# Altium footprint library DPAK_SMD.PcbLib: 19 footprints (part 1 of 2)
Each footprint in its own frame and in the unit in brackets; x right, y up, seen from the top. Pads: shape width x height; smd on the part's side, far side on the other; paste and mask are expansions set on the pad; w line width, h text height; cw(c..) or ccw(c..) is an arc to the next point about the centre after c.
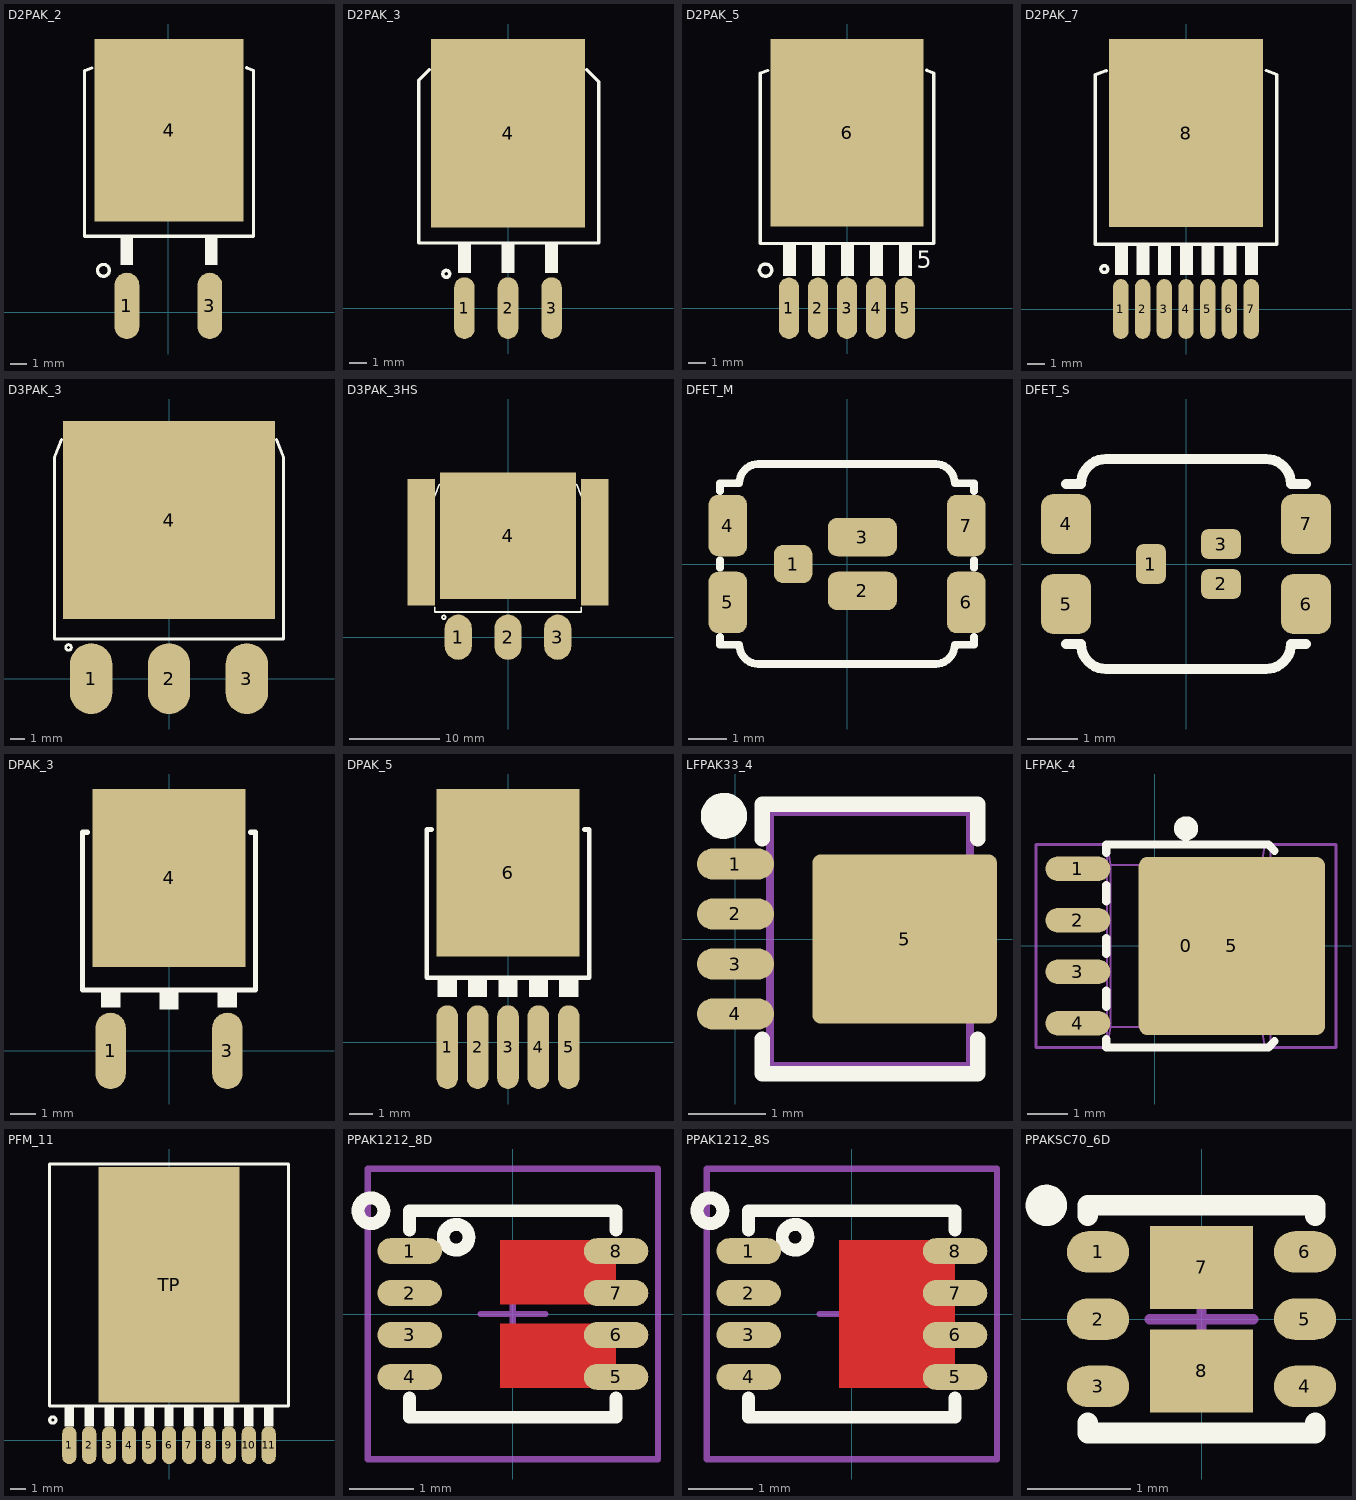
[diagram p0: the footprints below, top view; thin cyan lines are the x and y axes]

## D2PAK_2 [mm] "D2PAK-3, FMG500_3_S1000"
pads (3):
  oval 1.5x4 smd: 1(-2.5,0.4) 3(2.5,0.4)
  rect 9x11 smd: 4(0.04,11)
Top Overlay:
  circle w0.2: c-3.915,2.54 r0.359
  rectangle: 2.199,2.851 2.961,4.575
  rectangle: -2.881,2.851 -2.119,4.575
  lines w0.2: -5.06,14.6 -5.06,4.6 5.14,4.6 5.14,14.6 4.724,14.758 ; -5.02,14.6 -4.618,14.752
3D body "User Library-D2PAK.step": height 4.83, standoff 0, extent -5.233,-0.388 5.437,15.492

## D2PAK_3 [mm] "D2-PAK, 4-Pads, Body 7.6x8.6mm"
height 4.7
pads (4):
  oval 1.2x3.6 smd: 1(-2.54,0) 2(0,0) 3(2.54,0)
  rect 9x11 smd: 4(0,10.2)
Top Overlay:
  circle w0.2: c-3.6,2 r0.2
  rectangle: 2.159,2.051 2.921,3.775
  rectangle: -0.381,2.051 0.381,3.775
  rectangle: -2.921,2.051 -2.159,3.775
  lines w0.2: -4.605,13.901 -5.2,13.294 -5.2,3.8 5.3,3.8 5.3,13.194 ; 4.605,13.901 5.299,13.193
3D body "User Library-TO263-3-1.STEP": height 4.6, standoff -0.03, extent -5.167,-1.254 5.233,14.596

## D2PAK_5 [mm] "TO-263-5L, D2PAK-5, DDPAK, FMG170_5_S1000"
pads (6):
  oval 1.2x3.6 smd: 1(-3.404,0) 2(-1.702,0) 3(0,0) 4(1.702,0) 5(3.404,0)
  rect 9x11 smd: 6(0,10.3)
Top Overlay:
  circle w0.2: c-4.779,2.24 r0.359
  rectangle: 3.048,1.9 3.81,3.764
  rectangle: 1.346,1.9 2.108,3.764
  rectangle: -0.356,1.9 0.406,3.764
  rectangle: -2.057,1.9 -1.295,3.764
  rectangle: -3.759,1.9 -2.997,3.764
  lines w0.2: -5.1,13.8 -5.1,3.8 5.1,3.8 5.1,13.8 4.684,13.958 ; -5.06,13.8 -4.658,13.952
  text "5" at 4.089,2.367 h1.02
3D body "User Library-D2PAK TO-263-5.step": height 4.87, standoff 0, extent -5.08,-0.84 5.08,13.39

## D2PAK_7 [mm] "TO-263-7, D2PAK-7, NDW-7, TO-PMOD-7"
pads (8):
  oval 0.9x3.5 smd: 1(-3.81,0) 2(-2.54,0) 3(-1.27,0) 4(0,0) 5(1.27,0) 6(2.54,0) 7(3.81,0)
  rect 9x11 smd: 8(0,10.3)
Top Overlay:
  circle w0.2: c-4.779,2.34 r0.2
  rectangle: 3.454,2 4.216,3.8
  rectangle: 2.184,2 2.946,3.8
  rectangle: 0.914,2 1.676,3.8
  rectangle: -0.356,2 0.406,3.8
  rectangle: -1.626,2 -0.864,3.8
  rectangle: -2.896,2 -2.134,3.8
  rectangle: -4.166,2 -3.404,3.8
  lines w0.2: -4.658,13.952 -5.3,13.709 -5.3,3.8 5.3,3.8 5.3,13.724 4.684,13.958
3D body "User Library-D2PAK-7.step": height 4.5, standoff 0, extent -5.2,-1.6 5.2,14.074

## D3PAK_3 [mm] "D3-PAK, 4-Pads, TO-268AA"
height 4.7
pads (4):
  oval 3x5 smd: 1(-5.5,0) 2(0,0) 3(5.5,0)
  rect 15x14 smd: 4(0,11.2)
Top Overlay:
  circle w0.2: c-7.1,2.2 r0.2
  lines w0.2: -7.6,16.9 -8.1,15.6 -8.1,2.8 8.1,2.8 8.1,15.6 7.6,16.9
3D body "User Library-TO545P1905X510_HS-3.step": height 5.1, standoff 0, extent -8.001,-1.3 8.001,17.75

## D3PAK_3HS [mm] "D3-PAK, 4-Pads, TO-268AA"
height 4.7
pads (6):
  oval 3x5 smd: 1(-5.5,0) 2(0,0) 3(5.5,0)
  rect 15x14 smd: 4(0,11.2)
  rect 3x14 smd: ""(-9.6,10.5) ""(9.6,10.5)
Top Overlay:
  circle w0.2: c-7.1,2.2 r0.2
  lines w0.2: -8.1,3.3 -8.1,2.8 8.1,2.8 8.1,3.3 ; -8.1,15.6 -7.6,16.9 ; 7.6,16.9 8.1,15.6
3D body "User Library-TO545P1905X510_HS-3.step": height 5.1, standoff 0, extent -8.001,-1.3 8.001,17.75
3D body "User Library-Ohmite Style 10 Heatsink.step": height 10.16, standoff 0, extent -15.5,3.923 15.5,16.877

## DFET_M [mm] "DirectFET-MX, Medium size canPAK, MG-WDSON-2, 6.3x5x0.7mm"
height 0.7
pads (7):
  rrect50% 1x1 smd mask+0.075: 1(-1.4,0)
  rrect50% 1.8x1 smd mask+0.075: 2(0.4,-0.7) 3(0.4,0.7)
  rrect50% 1x1.6 smd: 4(-3.1,1) 5(-3.1,-1) 6(3.1,-1) 7(3.1,1)
Top Overlay:
  lines w0.2: -3.3,-1.9 -3.3,-2.1 -2.8,-2.1 ccw(c-2.3,-2.1) -2.3,-2.6 2.3,-2.6 ccw(c2.3,-2.1) 2.8,-2.1 3.3,-2.1 3.3,-1.9 ; -3.3,-0.1 -3.3,0.1 ; -3.3,1.9 -3.3,2.1 -2.8,2.1 cw(c-2.3,2.1) -2.3,2.6 2.3,2.6 cw(c2.3,2.1) 2.8,2.1 3.3,2.1 3.3,1.9 ; 3.3,-0.1 3.3,0.1
3D body "_DirectFET_MX.step": height 0.75, standoff 0, extent -3.175,-2.525 3.175,2.525

## DFET_S [mm] "DirectFET, Small size can, ST, SC, 5x4x0.7mm"
height 0.7
pads (7):
  rrect50% 0.6x0.8 smd mask+0.075: 1(-0.7,0)
  rrect50% 0.8x0.6 smd mask+0.075: 2(0.7,-0.4) 3(0.7,0.4)
  rrect50% 1x1.2 smd: 4(-2.4,0.8) 5(-2.4,-0.8) 6(2.4,-0.8) 7(2.4,0.8)
Top Overlay:
  lines w0.2: -2.4,-1.6 -2.1,-1.6 ccw(c-1.6,-1.6) -1.6,-2.1 1.6,-2.1 ccw(c1.6,-1.6) 2.1,-1.6 2.4,-1.6 ; -2.4,1.6 -2.1,1.6 cw(c-1.6,1.6) -1.6,2.1 1.6,2.1 cw(c1.6,1.6) 2.1,1.6 2.4,1.6
3D body: height 0.2, standoff 0, extent 1.9,-1.5 2.4,1.5
3D body: height 0.2, standoff 0, extent -2.4,-1.5 -1.9,1.5
3D body: height 0.45, standoff 0.2, extent -2,-2 2,2
3D body: height 0.7, standoff 0.45, extent -1.8,-1.8 1.8,1.8

## DPAK_3 [mm] "D-PAK (TO-252), 3-Pads, Body 6.2x6.7mm"
height 2.4
pads (3):
  oval 1.2x3 smd: 1(-2.3,0) 3(2.3,0)
  rect 6x7 smd: 4(0,6.8)
Top Overlay:
  rectangle: -0.381,1.632 0.381,2.394
  rectangle: -2.667,1.7 -1.905,2.394
  rectangle: 1.905,1.7 2.667,2.394
  lines w0.2: -3.2,8.6 -3.4,8.6 -3.4,2.4 3.4,2.4 3.4,8.6 3.2,8.6
3D body "User Library-DPAK_TO-252AA.step": height 2.37, standoff -0.03, extent -3.367,-0.498 3.367,9.602

## DPAK_5 [mm] "D-PAK (TO-252), 5-Pads, Body 6.2x6.7mm"
height 2.4
pads (6):
  oval 0.9x3.5 smd: 1(-2.54,-0.2) 2(-1.27,-0.2) 3(0,-0.2) 4(1.27,-0.2) 5(2.54,-0.2)
  rect 6x7 smd: 6(0,7.1)
Top Overlay:
  rectangle: 2.14,1.9 2.94,2.694
  rectangle: -0.4,1.9 0.4,2.694
  rectangle: -1.67,1.9 -0.87,2.694
  rectangle: -2.94,1.9 -2.14,2.694
  rectangle: 0.87,1.9 1.67,2.694
  lines w0.2: -3.2,8.9 -3.4,8.9 -3.4,2.7 3.4,2.7 3.4,8.9 3.2,8.9
3D body "User Library-DPAK-5-1.step": height 2.4, standoff -0.01, extent -3.35,-0.866 3.35,10

## LFPAK33_4 [mm] "LFPAK33-5, WDFN8, 3.3X3.3X0.9mm, 0.65mm pitch"
height 1.1
pads (5):
  oval 1x0.4 smd mask+0.05: 1(0,0.975) 2(0,0.325) 3(0,-0.325) 4(0,-0.975)
  rrect10% 2.4x2.2 smd paste-0.3: 5(2.2,0)
Top Overlay:
  circle w0.3: c-0.15,1.6 r0.15
  lines w0.2: 0.35,-1.3 0.35,-1.75 3.15,-1.75 3.15,-1.3 ; 0.35,1.3 0.35,1.75 3.15,1.75 3.15,1.3
Mechanical 13:
  lines w0.1: 0.45,-1.65 0.45,1.65 3.05,1.65 3.05,-1.65 0.45,-1.65
3D body "LFPAK33_User Library-PSMN3R0-30MLC.step": height 0.95, standoff 0, extent -0.16,-1.65 3.16,1.65

## LFPAK_4 [mm] "Renesas LFPAK56, POWER-SO8, SOT669"
height 1.1
pads (6):
  round 1 on Mech15: 0(0.767,0)
  oval 1.6x0.6 smd: 1(-1.9,1.905) 2(-1.9,0.635) 3(-1.9,-0.635) 4(-1.9,-1.905)
  rrect10% 4.6x4.4 smd paste-0.8: 5(1.9,0)
Top Overlay:
  circle w0.3: c0.767,2.9 r0.15
  lines w0.2: -1.2,-2.3 -1.2,-2.5 2.8,-2.5 2.95,-2.35 ; -1.2,-1.5 -1.2,-1.1 ; -1.2,-0.2 -1.2,0.2 ; -1.2,1.1 -1.2,1.5 ; -1.2,2.3 -1.2,2.5 2.8,2.5 2.95,2.35
Mechanical 13:
  circle w0.05: c0.767,1.5 r0.338
  lines w0.05: -1.864,-2.115 -1.864,-1.695 ; -1.864,-0.845 -1.864,-0.425 ; -1.864,0.425 -1.864,0.845 ; -1.864,1.695 -1.864,2.115 ; -1.776,-2.115 -1.776,-1.695 ; -1.776,-0.845 -1.776,-0.425 ; -1.776,0.425 -1.776,0.845 ; -1.776,1.695 -1.776,2.115 ; -1.739,-2.115 -1.739,-1.695 ; -1.739,-0.845 -1.739,-0.425 ; -1.739,0.425 -1.739,0.845 ; -1.739,1.695 -1.739,2.115 ; -1.45,-2.115 -1.45,-1.695 ; -1.45,-0.845 -1.45,-0.425 ; -1.45,0.425 -1.45,0.845 ; -1.45,1.695 -1.45,2.115 ; -1.183,-2.115 -2.233,-2.115 -2.233,-1.695 -1.183,-1.695 ; -1.183,-0.845 -2.233,-0.845 -2.233,-0.425 -1.183,-0.425 ; -1.183,0.425 -2.233,0.425 -2.233,0.845 -1.183,0.845 ; -1.183,1.695 -2.233,1.695 -2.233,2.115 -1.183,2.115 ; -1.17,-2.45 -1.091,-2.003 ; -1.17,2.45 -1.091,2.003 ; 2.704,-2.45 2.625,-2.003 ; 2.704,2.45 2.625,2.003 ; 2.852,-1.4 2.852,-2.358 2.76,-2.45 -1.183,-2.45 -1.183,2.45 2.76,2.45 2.852,2.358 2.852,1.4 ; 2.852,-0.6 2.852,0.6 ; -1.091,-2.003 2.625,-2.003 ; -1.091,-2.003 -1.091,2.003 ; -1.091,2.003 2.625,2.003 ; 2.625,-2.003 2.625,2.003 ; 2.795,-1.4 2.795,-0.6 2.867,-0.6 2.867,0.6 2.795,0.6 2.795,1.4 3.067,1.4 3.067,2.1 3.317,2.1 3.767,1.65 3.767,-1.65 3.317,-2.1 3.067,-2.1 3.067,-1.4 2.795,-1.4
Mechanical 15:
  lines w0.076: -2.933,-2.5 4.467,-2.5 4.467,2.5 -2.933,2.5 -2.933,-2.5
3D body "LFPAK.STEP": height 1.1, standoff 0, extent -2.233,-2.45 3.767,2.45

## PFM_11 [mm] "PFM11 (TI), TZA11A, pitch: 127mm, 11p, 15X15mm"
height 4.6
pads (12):
  oval 0.9x2.4 smd mask+0.1: 1(-6.35,-0.3) 2(-5.08,-0.3) 3(-3.81,-0.3) 4(-2.54,-0.3) 5(-1.27,-0.3) 6(0,-0.3) 7(1.27,-0.3) 8(2.54,-0.3) 9(3.81,-0.3) 10(5.08,-0.3) 11(6.35,-0.3)
  rect 9x15 smd: TP(0,9.9)
Top Overlay:
  circle w0.2: c-7.4,1.3 r0.2
  rectangle: 6.05,0.9 6.65,2.2
  rectangle: 4.78,0.9 5.38,2.2
  rectangle: 3.51,0.9 4.11,2.2
  rectangle: 2.24,0.9 2.84,2.2
  rectangle: 0.97,0.9 1.57,2.2
  rectangle: -6.65,0.9 -6.05,2.2
  rectangle: -5.38,0.9 -4.78,2.2
  rectangle: -4.11,0.9 -3.51,2.2
  rectangle: -2.84,0.9 -2.24,2.2
  rectangle: -1.57,0.9 -0.97,2.2
  rectangle: -0.3,0.9 0.3,2.2
  lines w0.2: -7.6,2.2 7.6,2.2 7.6,17.6 -7.6,17.6 -7.6,2.2
3D body "NATIONALSEMI-TZA11A.STEP": height 6, standoff 0, extent -7.625,-0.915 7.625,17.615

## PPAK1212_8D [mm] "PowerPAK 1212-8(vishay) pitch: 0.65mm 3.3x3.3x1.1mm"
height 1.1
pads (8):
  oval 1x0.4 smd mask+0.05: 1(-1.6,0.975) 2(-1.6,0.325) 3(-1.6,-0.325) 4(-1.6,-0.975) 5(1.6,-0.975) 6(1.6,-0.325) 7(1.6,0.325) 8(1.6,0.975)
Top Layer:
  rectangle: -0.2,-1.15 1.6,-0.15
  rectangle: -0.2,0.15 1.6,1.15
Top Overlay:
  circle w0.2: c-2.2,1.6 r0.2
  circle w0.2: c-0.88,1.19 r0.2
  lines w0.2: -1.6,-1.3 -1.6,-1.6 1.6,-1.6 1.6,-1.3 ; -1.6,1.3 -1.6,1.6 1.6,1.6 1.6,1.3
Top Solder:
  rectangle: -0.25,-1.2 1.65,-0.1
  rectangle: -0.25,0.1 1.65,1.2
Mechanical 15:
  lines w0.1: -0.5,0 0.5,0 ; 0,-0.5 0,0.5 ; -2.25,-2.25 2.25,-2.25 2.25,2.25 -2.25,2.25 -2.25,-2.25
3D body "User Library-SI7913DN-T1-GE3.step": height 1.12, standoff 0, extent -1.655,-1.65 1.655,1.65

## PPAK1212_8S [mm] "PowerPAK 1212-8, pitch: 0.65mm 3.3x3.3x1.1mm, PowerDI3333-8"
height 1.1
pads (8):
  oval 1x0.4 smd: 1(-1.6,0.975) 2(-1.6,0.325) 3(-1.6,-0.325) 4(-1.6,-0.975) 5(1.6,-0.975) 6(1.6,-0.325) 7(1.6,0.325) 8(1.6,0.975)
Top Layer:
  rectangle: -0.2,-1.15 1.6,1.15
Top Overlay:
  circle w0.2: c-0.88,1.19 r0.2
  circle w0.2: c-2.2,1.6 r0.2
  lines w0.2: -1.6,-1.3 -1.6,-1.6 1.6,-1.6 1.6,-1.3 ; -1.6,1.3 -1.6,1.6 1.6,1.6 1.6,1.3
Top Solder:
  rectangle: -0.25,-1.25 1.65,1.25
Mechanical 15:
  lines w0.1: -0.5,0 0.5,0 ; 0,-0.5 0,0.5 ; -2.25,-2.25 -2.25,2.25 2.25,2.25 2.25,-2.25 -2.25,-2.25
3D body "User Library-PowerPAK 1212-8-SiS892DN.step": height 1.04, standoff 0, extent -1.65,-1.65 1.65,1.65

## PPAKSC70_6D [mm] "PowerPAK SC-70-6, DFN, DRV, PWSON, WDFN6 Pitch: 0.65mm 2x2x1.1mm with 2 Thermal pad"
height 1.1
pads (8):
  oval 0.6x0.4 smd mask+0.075: 1(-1,0.65) 2(-1,0) 3(-1,-0.65) 4(1,-0.65) 5(1,0) 6(1,0.65)
  rect 1x0.8 smd mask+0.075: 7(0,0.5) 8(0,-0.5)
Top Overlay:
  circle w0.2: c-1.5,1.1 r0.1
  lines w0.2: -1.1,-1 -1.1,-1.1 1.1,-1.1 1.1,-1 ; -1.1,1 -1.1,1.1 1.1,1.1 1.1,1
Mechanical 15:
  lines w0.1: -0.5,0 0.5,0 ; 0,-0.5 0,0.5
3D body "User Library-SOT1118 DFN2020-6.step": height 0.65, standoff 0, extent -1.04,-1.004 1.04,1.004